# Altium footprint library PCB - HEADERS - Amphenol - 95278-501A10LF.PcbLib: 1 footprints
Each footprint in its own frame and in the unit in brackets; x right, y up, seen from the top. Pads: shape width x height; smd on the part's side, far side on the other; paste and mask are expansions set on the pad; w line width, h text height; cw(c..) or ccw(c..) is an arc to the next point about the centre after c.
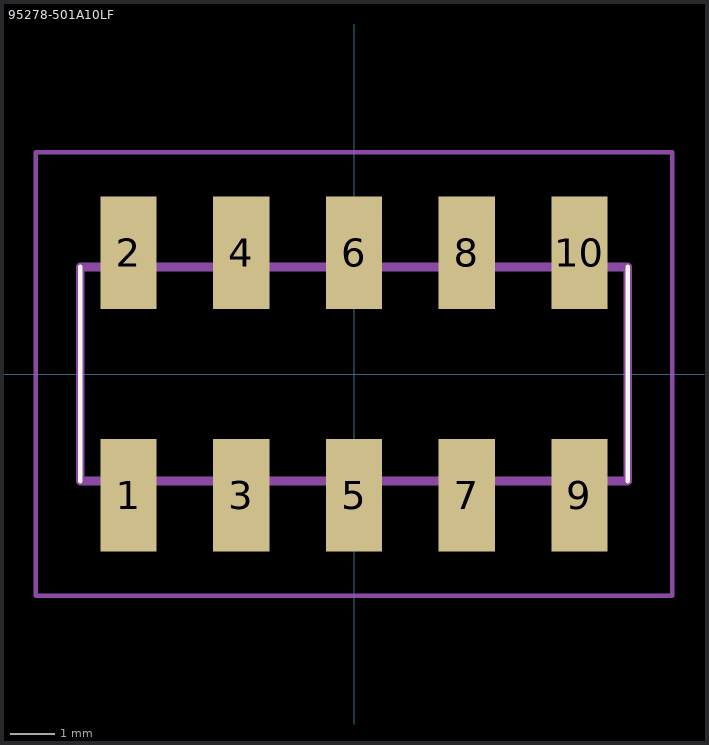
[diagram p0: the footprint, top view; thin cyan lines are the x and y axes]

## 95278-501A10LF [mm]
pads (10):
  rect 1.27x2.54 smd: 1(-5.08,-2.73) 2(-5.08,2.73) 3(-2.54,-2.73) 4(-2.54,2.73) 5(0,-2.73) 6(0,2.73) 7(2.54,-2.73) 8(2.54,2.73) 9(5.08,-2.73) 10(5.08,2.73)
Top Overlay:
  lines w0.1: -6.17,-2.415 -6.17,2.415 ; 6.17,-2.415 6.17,2.415
Mechanical 13:
  lines w0.2: -6.17,-2.415 6.17,-2.415 6.17,2.415 -6.17,2.415 -6.17,-2.415
Mechanical 15:
  lines w0.1: -7.17,-5 7.17,-5 7.17,5 -7.17,5 -7.17,-5
3D body "95278-501A10LF.stp": height 8.87, standoff 0, extent -6.17,-3.873 6.17,3.873